# Altium schematic symbol library Op Amps.SchLib: 6 symbols
Pins are listed as number, name and electrical type; pins without a type are passive.

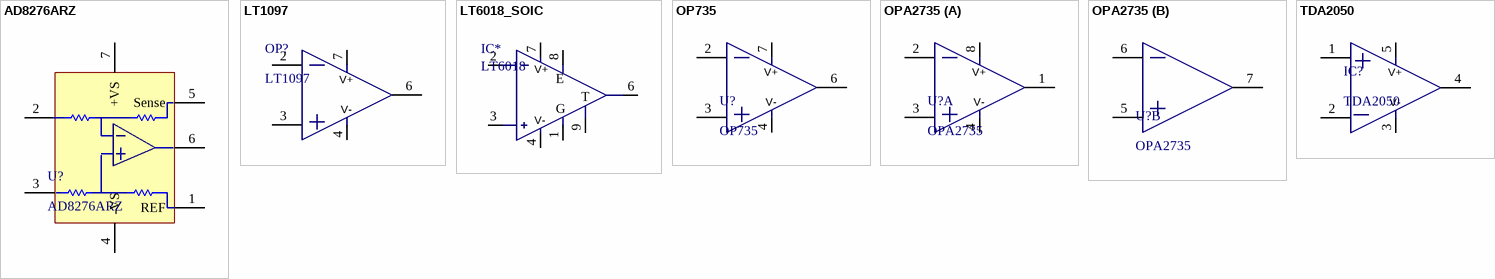
[diagram p0: symbols AD8276ARZ to TDA2050]

## AD8276ARZ
designator U?
Unity-Gain Difference Amplifier; Supplier 1: Farnell; Supplier Part Number 1: 1827398
footprint AD8276ARZ (Differential Amplifier, Unity-Gain)
pins: 1 REF, 2 IN-, 3 IN+, 4 -VS, 5 Sense, 6 OUT, 7 +VS

## LT1097
designator OP?
Supplier 1: Farnell; Supplier Part Number 1: 9559922
footprint LT1097S8
pins: 2 IN-, 3 IN+, 4 V-, 6 OUT, 7 VCC
text: V+

## LT6018_SOIC
designator IC*, comment LT6018
LT6018 Precision DC op amp; Supplier 1: Farnell; Supplier Part Number 1: 2629296
footprint LT6018__SOIC127P620X175_HS-9N (LT6018__SOIC, 8-Leads, Body 4.90x3.90mm, Pitch 1.27mm, Thermal Pad 3.55x2.58mm, IPC Medium Density)
pins: 1 G, 2 IN-, 3 IN+, 4 V-, 6 OUT, 7 VCC, 8 E, 9 T
text: V+

## OP735
designator U?
Supplier 1: Farnell; Supplier Part Number 1: 1212328
footprint SOP127P600-8N
pins: 2 IN-, 3 IN+, 4 V-, 6 OUT, 7 VCC
text: V+

## OPA2735
designator U?
Supplier 1: Farnell; Supplier 2: Farnell; Supplier Part Number 2: 2382803
footprint TSOP65P490X110-8N (TSOP, 8-Leads, Body 3.00x3.00mm, Pitch 0.65mm, IPC Medium Density)
part A pins: 1 OUT, 2 IN-, 3 IN+, 4 100, 8 VCC
part B pins: 5 IN+, 6 IN-, 7 OUT
part A text: V+; V-

## TDA2050
designator IC?
Supplier 1: Farnell; Supplier Part Number 1: 1094345
footprint TDA2050_Vertical_Pentawatt (32W Audio Amplifier)
pins: 1 IN+, 2 IN-, 3 V-, 4 OUT, 5 VCC
text: V+